# Altium footprint library fszhang.PcbLib: 172 footprints (part 9 of 11)
Each footprint in its own frame and in the unit in brackets; x right, y up, seen from the top. Pads: shape width x height; smd on the part's side, far side on the other; paste and mask are expansions set on the pad; w line width, h text height; cw(c..) or ccw(c..) is an arc to the next point about the centre after c.
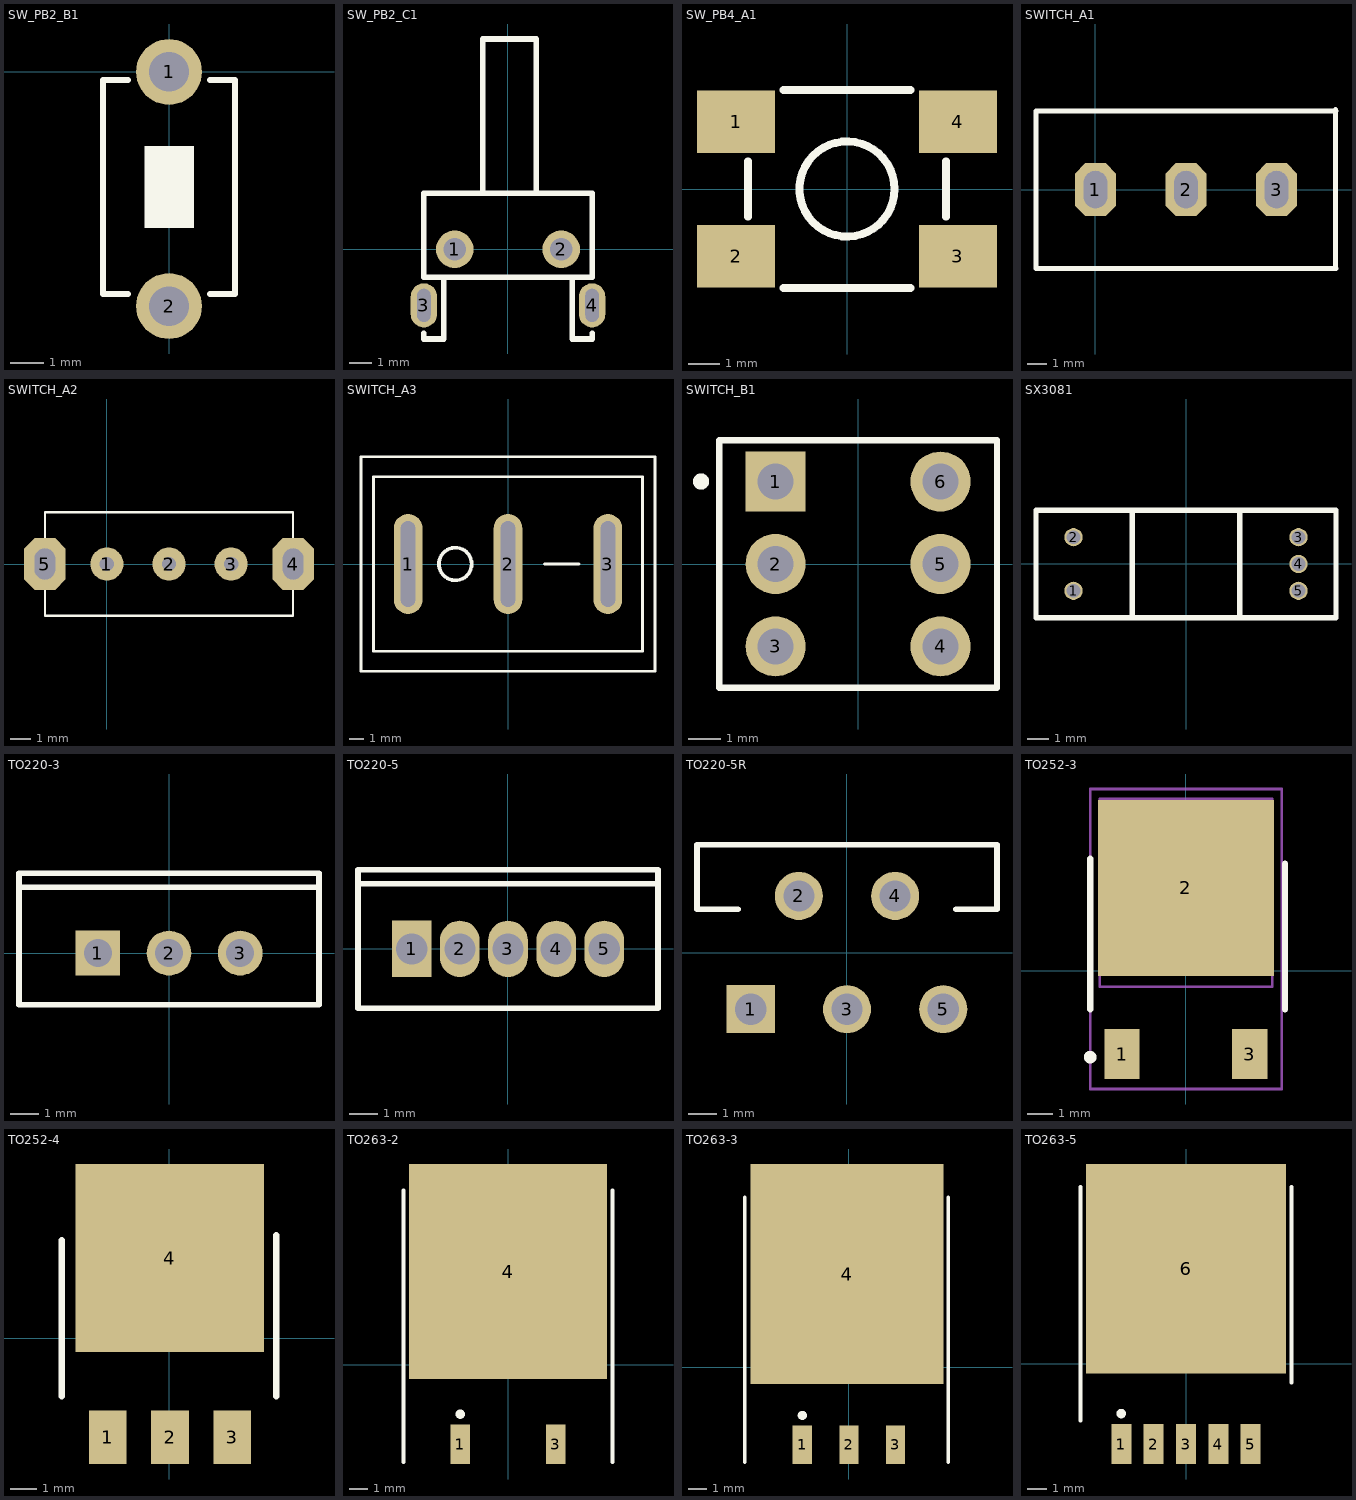
[diagram p8: the footprints below, top view; thin cyan lines are the x and y axes]

## SW_PB2_B1 [mm]
pads (2):
  round 2 hole 1.2: 1(0,0) 2(0,-7.112)
Top Overlay:
  region: -0.747,-2.247 -0.747,-4.747 0.753,-4.747 0.753,-2.247
  lines w0.178: -1.25,-6.75 -2,-6.746 -2,-0.25 -1.25,-0.25 ; 1.25,-6.75 2,-6.75 2,-0.25 1.25,-0.25

## SW_PB2_C1 [mm] "侧卧微动开关"
height 8
pads (4):
  round 1.7 hole 1: 1(-2.413,0) 2(2.413,0)
  oval 1.2x2 hole 0.6 slot 1.5 at 90 deg: 3(-3.81,-2.54) 4(3.81,-2.54)
Top Overlay:
  lines w0.25: -3.81,-3.81 -3.81,-4.064 -2.921,-4.064 -2.921,-1.27 ; -1.143,2.54 -1.143,9.525 1.27,9.525 1.27,2.54 ; 2.921,-1.27 2.921,-4.064 3.81,-4.064 3.81,-3.81 ; -3.81,-1.27 3.81,-1.27 3.81,2.54 -3.81,2.54 -3.81,-1.27

## SW_PB4_A1 [mm]
pads (4):
  rect 2.5x2 smd: 1(-3.556,2.159) 2(-3.556,-2.159) 3(3.556,-2.159) 4(3.556,2.159)
Top Overlay:
  circle w0.254: c0,0 r1.524
  lines w0.25: -3.175,-0.889 -3.175,0.889 ; -2.032,-3.175 2.032,-3.175 ; -2.032,3.175 2.032,3.175 ; 3.175,-0.889 3.175,0.889
3D body: height 1.5, standoff 0, extent -3.175,-3.175 3.175,3.175
3D body: height 6, standoff 0, extent -1.524,-1.524 1.524,1.524

## SWITCH_A1 [mm] "扭子开关"
height 10
pads (3):
  oct 2.1x2.7 hole 1.2 slot 1.9 at 90 deg: 1(0,0) 2(4.6,0) 3(9.2,0)
Top Overlay:
  lines w0.254: 12.192,-3.972 12.192,4.064 ; 12.22,-4 -3.02,-4 -3.02,4 12.22,4

## SWITCH_A2 [mm] "平拨开关"
height 9
pads (5):
  round 1.6 hole 0.7: 1(0,0) 2(3,0) 3(6,0)
  oct 2x2.5 hole 1 slot 1.5 at 90 deg: 4(9,0) 5(-3,0)
Top Overlay:
  lines w0.1: -3,-2.5 -3,2.5 9,2.5 9,-2.5 -3,-2.5

## SWITCH_A3 [mm] "单刀单掷开关"
height 9
pads (3):
  oval 2x7 hole 1 slot 6 at 90 deg: 1(-6.985,0) 2(0,0) 3(6.985,0)
Top Overlay:
  circle w0.254: c-3.683,0 r1.143
  lines w0.2: 2.54,0 4.953,0 ; -10.287,-7.493 10.287,-7.493 10.287,7.493 -10.287,7.493 -10.287,-7.493 ; -9.398,-6.096 -9.398,6.096 9.398,6.096 9.398,-6.096 -9.398,-6.096

## SWITCH_B1 [mm] "单刀"
height 1.75
pads (6):
  rect 1.85x1.85 hole 1.1: 1(-2.54,2.54)
  round 1.85 hole 1.1: 2(-2.54,0) 3(-2.54,-2.54) 4(2.54,-2.54) 5(2.54,0) 6(2.54,2.54)
Top Overlay:
  circle w0.25: c-4.836,2.541 r0.125
  lines w0.2: -4.28,-3.81 -4.28,3.81 4.28,3.81 4.28,-3.81 -4.28,-3.81

## SX3081 [mm]
pads (5):
  round 0.85 hole 0.65: 1(-5.25,-1.25) 2(-5.25,1.25) 3(5.25,1.25) 4(5.25,0) 5(5.25,-1.25)
Top Overlay:
  lines w0.254: -2.5,-2.5 -2.5,2.5 ; 2.5,-2.5 2.5,2.5 ; -7,-2.5 7,-2.5 7,2.5 -7,2.5 -7,-2.5

## TO220-3 [mm] "TO, Thru-Hole, Vertical, Heatsink Mounted; 3 In-Line Leads; Pitch 2.54 mm"
height 19.4
pads (3):
  rect 1.6x1.6 hole 1: 1(-2.54,0)
  round 1.6 hole 1: 2(0,0) 3(2.54,0)
Top Overlay:
  lines w0.2: -5.35,2.35 5.35,2.35 ; -5.35,-1.85 -5.35,2.85 5.35,2.85 5.35,-1.85 -5.35,-1.85

## TO220-5 [mm] "TO, Thru-Hole, Vertical, Heatsink Mounted; 5 In-Line Leads; Pitch 1.70 mm"
height 15.3
pads (5):
  rect 1.4x2 hole 1.1: 1(-3.4,0)
  oval 1.4x2 hole 1.1: 2(-1.7,0) 3(0,0) 4(1.7,0) 5(3.4,0)
Top Overlay:
  lines w0.2: -5.3,2.3 5.3,2.3 ; -5.3,-2.1 5.3,-2.1 5.3,2.8 -5.3,2.8 -5.3,-2.1

## TO220-5R [mm]
height 21.1
pads (5):
  rect 1.7x1.7 hole 1.1: 1(-3.4,-2)
  round 1.7 hole 1.1: 2(-1.7,2) 3(0,-2) 4(1.7,2) 5(3.4,-2)
Top Overlay:
  lines w0.2: -3.854,1.53 -5.3,1.53 -5.3,3.81 5.3,3.81 5.3,1.53 3.854,1.53

## TO252-3 [mm] "D2-PAK"
height 4.69
pads (3):
  rect 1.4x2 smd: 1(-2.54,-3.302) 3(2.54,-3.302)
  rect 7x7 smd: 2(0,3.302)
Top Overlay:
  circle w0.25: c-3.81,-3.427 r0.125
  lines w0.254: -3.81,-1.524 -3.81,4.467 ; 3.937,-1.524 3.937,4.267
Mechanical 13:
  lines w0.1: -3.429,-0.635 3.429,-0.635 3.429,6.858 -3.429,6.858 -3.429,-0.635
Mechanical 15:
  lines w0.1: -0.5,3.556 0.5,3.556 ; 0,3.056 0,4.056 ; -3.81,-4.694 3.81,-4.694 3.81,7.239 -3.81,7.239 -3.81,-4.694
3D body: height 2.39, standoff -0.02, extent -3.27,-3.81 3.27,6.128

## TO252-4 [mm]
pads (4):
  rect 1.4x2 smd: 1(-2.286,-3.683) 2(0.025,-3.683) 3(2.337,-3.683)
  rect 7x7 smd: 4(0.014,2.982)
Top Overlay:
  lines w0.254: -4.002,-2.159 -4.002,3.632 ; 3.975,-2.159 3.975,3.832

## TO263-2 [mm] "LM2940/LM1086"
height 4.65
pads (3):
  rect 1.05x2.1 smd: 1(-2.54,-4.225) 3(2.54,-4.225)
  rect 10.5x11.43 smd: 4(0,4.953)
Top Overlay:
  circle w0.25: c-2.54,-2.625 r0.125
  lines w0.2: -5.55,-5.175 -5.55,9.275 ; 5.55,-5.175 5.55,9.275
3D body: height 1.6, standoff 0, extent -5.334,-1.778 5.334,9.271
3D body: height 0.8, standoff 0, extent -3.048,-4.699 -2.032,-1.778
3D body: height 0.8, standoff 0, extent 2.032,-4.699 3.048,-1.778

## TO263-3 [mm] "LM2940/LM1086"
height 4.65
pads (4):
  rect 1.05x2.1 smd: 1(-2.54,-4.225) 2(0,-4.225) 3(2.54,-4.225)
  rect 10.5x12 smd: 4(-0.104,5.08)
Top Overlay:
  circle w0.25: c-2.54,-2.625 r0.125
  lines w0.2: -5.677,-5.175 -5.677,9.275 ; 5.423,-5.175 5.423,9.275
3D body: height 1.6, standoff 0, extent -5.461,-1.778 5.207,9.271
3D body: height 0.8, standoff 0, extent -3.048,-4.699 -2.032,-1.778
3D body: height 0.8, standoff 0, extent -0.508,-4.699 0.508,-1.778
3D body: height 0.8, standoff 0, extent 2.032,-4.699 3.048,-1.778

## TO263-5 [mm] "贴片LM2596"
height 4.65
pads (6):
  rect 1.05x2.1 smd: 1(-3.4,-4.225) 2(-1.7,-4.225) 3(0,-4.225) 4(1.7,-4.225) 5(3.4,-4.225)
  rect 10.5x11 smd: 6(0,4.987)
Top Overlay:
  circle w0.25: c-3.4,-2.625 r0.125
  lines w0.2: -5.55,-3 -5.55,9.275 ; 5.55,-1 5.55,9.275
3D body: height 0.6, standoff 0, extent 2.921,-4.699 3.81,-0.508
3D body: height 0.6, standoff 0, extent 1.27,-4.699 2.159,-0.508
3D body: height 0.6, standoff 0, extent -0.508,-4.699 0.381,-0.508
3D body: height 0.6, standoff 0, extent -2.159,-4.699 -1.27,-0.508
3D body: height 0.6, standoff 0, extent -3.81,-4.699 -2.921,-0.508
3D body: height 1, standoff 0, extent -5.334,9.271 5.334,10.287
3D body: height 3, standoff 0, extent -5.334,-0.508 5.334,9.271